# Altium footprint library CAP_XH414HG-IV01E.PcbLib: 1 footprints
Each footprint in its own frame and in the unit in brackets; x right, y up, seen from the top. Pads: shape width x height; smd on the part's side, far side on the other; paste and mask are expansions set on the pad; w line width, h text height; cw(c..) or ccw(c..) is an arc to the next point about the centre after c.
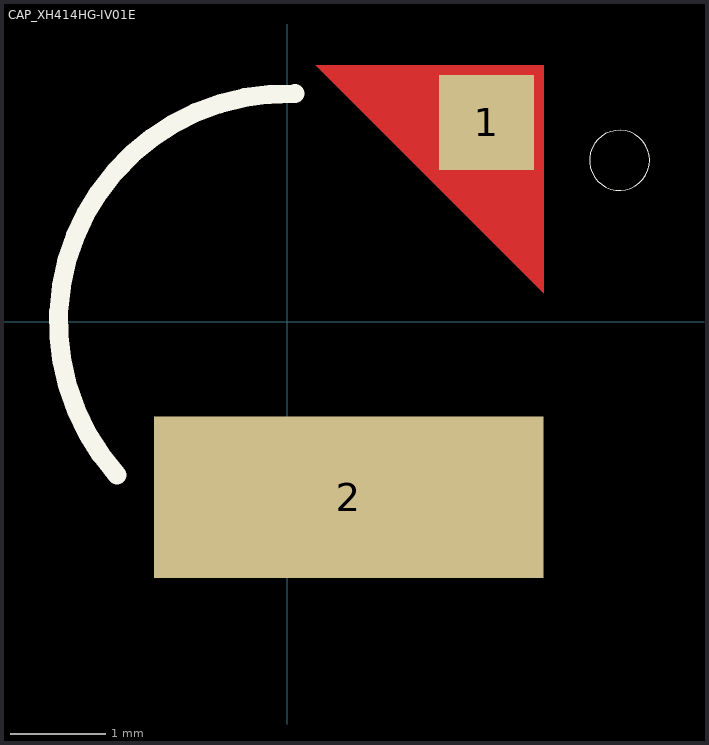
[diagram p0: the footprint, top view; thin cyan lines are the x and y axes]

## CAP_XH414HG-IV01E [mm]
pads (2):
  rect 1x1 smd: 1(2.1,2.1)
  rect 4.1x1.7 smd: 2(0.65,-1.85)
Top Layer:
  region: 2.7,0.3 0.3,2.7 2.7,2.7
Top Overlay:
  circle w0: c3.5,1.7 r0.316
  lines w0.2: -1.789,-1.612 cw(c-0.001,-0.003) 0.082,2.401
Top Paste:
  region: 2.7,0.3 0.3,2.7 2.7,2.7
Top Solder:
  region: 2.8,0.1 0.1,2.8 2.8,2.8
3D body "step_temp.STEP": height 1.85, standoff 0, extent -2.347,-2.4 2.4,2.4